# Altium schematic symbol library Schlib1.SchLib: 25 symbols
Pins are listed as number, name and electrical type; pins without a type are passive.

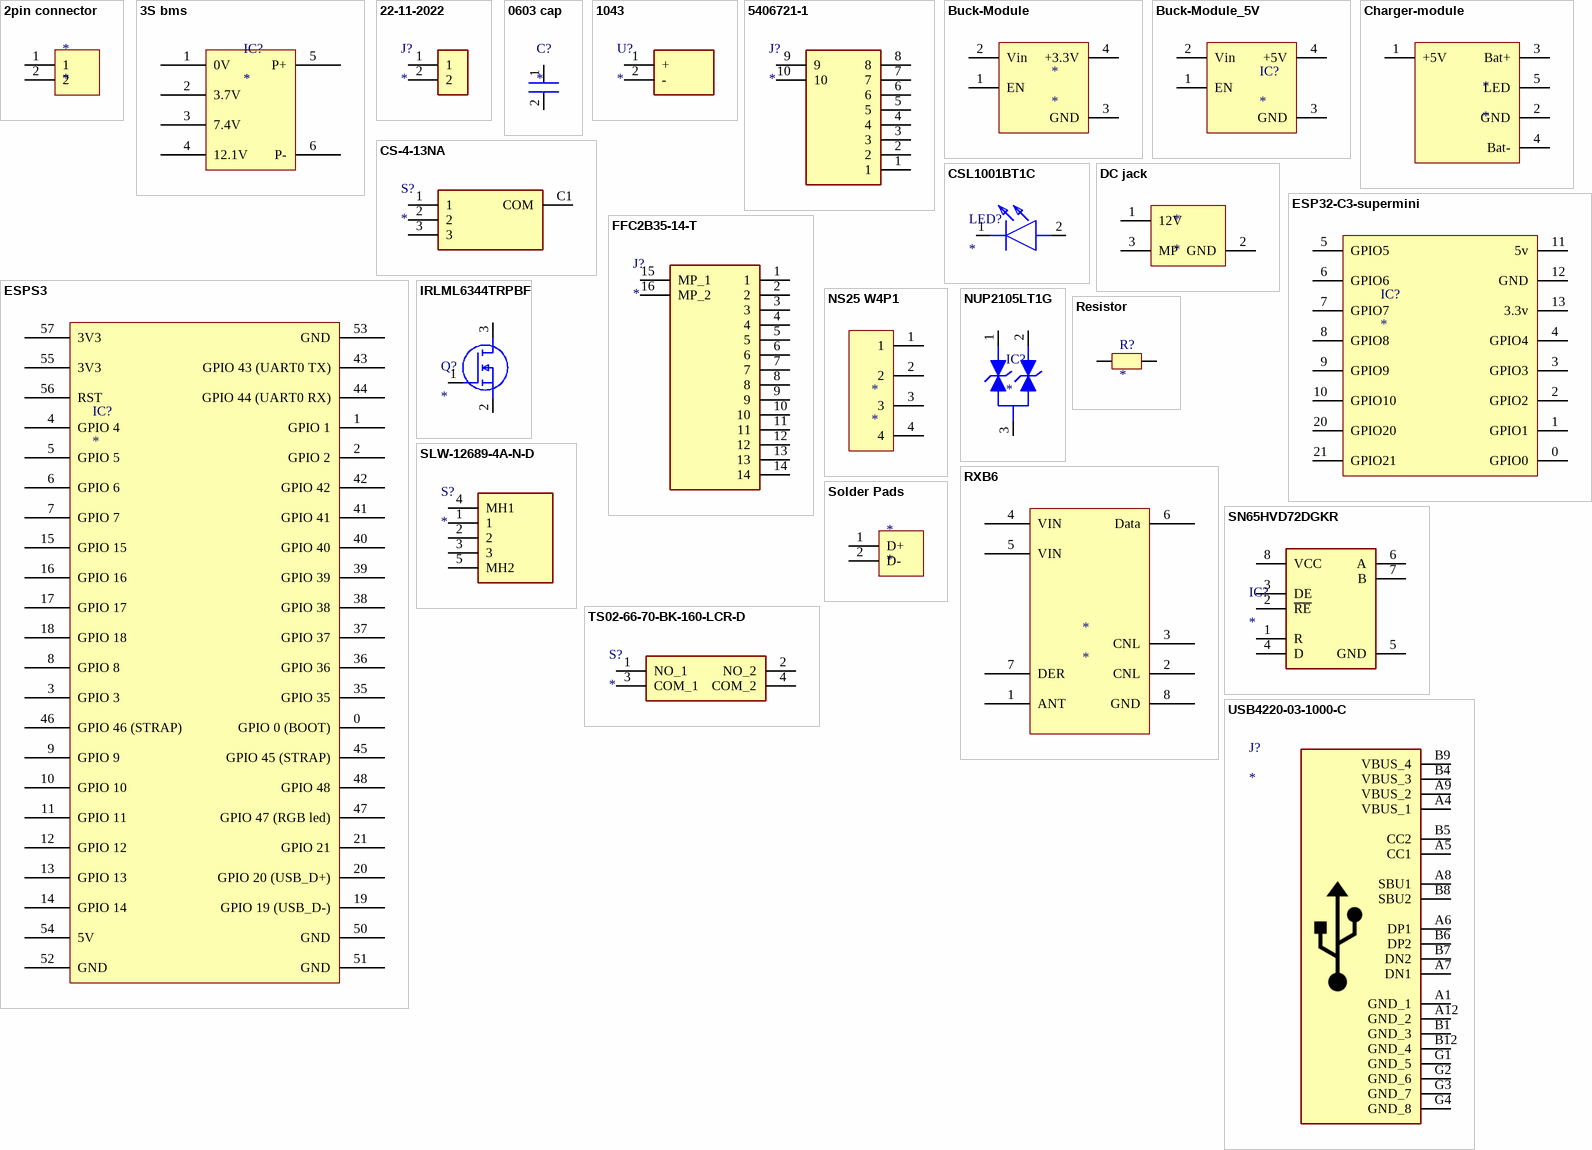
[diagram p0: symbols 2pin connector to USB4220-03-1000-C]

## 2pin connector
designator *
footprint USB Data pads
pins: 1, 2

## 3S bms
designator IC?
footprint 3S BMS
pins: 1 0V, 2 3.7V, 3 7.4V, 4 12.1V, 5 P+, 6 P-

## 22-11-2022
designator J?
Connector; Manufacturer_Name: Molex; Datasheet Link: https://www.molex.com/en-us/products/part-detail/22112022?display=pdf; Height: 10.92mm; Manufacturer_Part_Number: 22-11-2022; Mouser Part Number: 538-22-11-2022; Mouser Price/Stock: https://www.mouser.co.uk/ProductDetail/Molex/22-11-2022?qs=mrPiglD9aYLq1NGrfjXTJg%3D%3D; Arrow Part Number: 22-11-2022; Arrow Price/Stock: https://www.arrow.com/en/products/22-11-2022/molex?utm_currency=USD&region=nac
footprint 22112022
pins: 1, 2

## 0603 cap
designator C?
footprint Resistor
pins: 1 38, 2 39

## 1043
designator U?
Undefined or Miscellaneous; Manufacturer_Name: Keystone Electronics; Manufacturer_Part_Number: 1043; Datasheet Link: http://www.keyelco.com/product-pdf.cfm?p=919; Mouser Part Number: 534-1043; Mouser Price/Stock: https://www.mouser.co.uk/ProductDetail/Keystone-Electronics/1043?qs=%2F7TOpeL5Mz6j%2FnxeOA1rsg%3D%3D; Arrow Part Number: 1043; Arrow Price/Stock: https://www.arrow.com/en/products/1043/keystone-electronics?utm_currency=USD&region=europe
footprint 1043
pins: 1 +, 2 -

## 5406721-1
designator J?
Connector; Manufacturer_Name: TE Connectivity; Manufacturer_Part_Number: 5406721-1; Datasheet Link: https://www.te.com/commerce/DocumentDelivery/DDEController?Action=srchrtrv&DocNm=82066_Mod_Jacks_and_MRJ21_Prod_-_Single&DocType=Catalog%20Section&DocLang=English&PartCntxt=5406721-1&DocFormat=pdf; Height: 12mm; Mouser Part Number: 571-5406721-1; Mouser Price/Stock: https://www.mouser.co.uk/ProductDetail/TE-Connectivity-AMP/5406721-1?qs=dJbzCyn%252BCFbR42PHIn9ZjQ%3D%3D; Arrow Part Number: 5406721-1; Arrow Price/Stock: https://www.arrow.com/en/products/5406721-1/te-connectivity?region=nac
footprint 54067211
footprint 54067211
pins: 1, 2, 3, 4, 5, 6, 7, 8, 9, 10

## Buck-Module
designator *
footprint Buck-Module
pins: 1 EN, 2 Vin, 3 GND, 4 +3.3V

## Buck-Module_5V
designator IC?
footprint Buck-Module
pins: 1 EN, 2 Vin, 3 GND, 4 +5V

## Charger-module
designator *
footprint Charger-module
pins: 1 +5V, 2 GND, 3 Bat+, 4 Bat-, 5 LED

## CS-4-13NA
designator S?
Switch; Manufacturer_Name: Nidec Copal; Manufacturer_Part_Number: CS-4-13NA; Datasheet Link: https://www.nidec-components.com/e/catalog/switch/cs-4.pdf; Height: 2.6mm; Mouser Part Number: 229-CS-4-13NA; Mouser Price/Stock: https://www.mouser.co.uk/ProductDetail/Nidec-Components/CS-4-13NA?qs=XeJtXLiO41RevovLKa6Aew%3D%3D
footprint CS413NA
pins: 1, 2, 3, C1 COM

## CSL1001BT1C
designator LED?
LED; Manufacturer_Name: ROHM Semiconductor; Manufacturer_Part_Number: CSL1001BT1C; Datasheet Link: https://fscdn.rohm.com/en/products/databook/datasheet/opto/led/chip_mono/csl1001bt1(c)-e.pdf; Height: 1.16mm; Mouser Part Number: 755-CSL1001BT1C; Mouser Price/Stock: https://www.mouser.co.uk/ProductDetail/ROHM-Semiconductor/CSL1001BT1C?qs=HoCaDK9Nz5fqNTX3Pg0ReA%3D%3D
footprint CSL1001BT1C
pins: 1 K, 2 A

## DC jack
designator *
footprint DC Jack
pins: 1 12V, 2 GND, 3 MP

## ESP32-C3-supermini
designator IC?
footprint Esp32Module
pins: 0 GPIO0, 1 GPIO1, 2 GPIO2, 3 GPIO3, 4 GPIO4, 5 GPIO5, 6 GPIO6, 7 GPIO7, 8 GPIO8, 9 GPIO9, 10 GPIO10, 11 5v, 12 GND, 13 3.3v, 20 GPIO20, 21 GPIO21

## ESPS3
designator IC?
footprint ESP32S3Module
pins: 0 GPIO 0 (BOOT), 1 GPIO 1, 2 GPIO 2, 3 GPIO 3, 4 GPIO 4, 5 GPIO 5, 6 GPIO 6, 7 GPIO 7, 8 GPIO 8, 9 GPIO 9, 10 GPIO 10, 11 GPIO 11, 12 GPIO 12, 13 GPIO 13, 14 GPIO 14, 15 GPIO 15, 16 GPIO 16, 17 GPIO 17, 18 GPIO 18, 19 GPIO 19 (USB_D-), 20 GPIO 20 (USB_D+), 21 GPIO 21, 35 GPIO 35, 36 GPIO 36, 37 GPIO 37, 38 GPIO 38, 39 GPIO 39, 40 GPIO 40, 41 GPIO 41, 42 GPIO 42, 43 GPIO 43 (UART0 TX), 44 GPIO 44 (UART0 RX), 45 GPIO 45 (STRAP), 46 GPIO 46 (STRAP), 47 GPIO 47 (RGB led), 48 GPIO 48, 50 GND, 51 GND, 52 GND, 53 GND, 54 5V, 55 3V3, 56 RST, 57 3V3

## FFC2B35-14-T
designator J?
Connector; Manufacturer_Name: GCT (GLOBAL CONNECTOR TECHNOLOGY); Manufacturer_Part_Number: FFC2B35-14-T; Datasheet Link: https://gct.co/files/drawings/ffc2b35.pdf; Height: 2.2mm; Mouser Part Number: 640-FFC2B35-14-T; Mouser Price/Stock: https://www.mouser.co.uk/ProductDetail/GCT/FFC2B35-14-T?qs=Li%252BoUPsLEnvGh4quluOFdA%3D%3D
footprint FFC2B3514T
footprint FFC2B3514T
pins: 1, 2, 3, 4, 5, 6, 7, 8, 9, 10, 11, 12, 13, 14, 15 MP_1, 16 MP_2

## IRLML6344TRPBF
designator Q?
MOSFET (N-Channel); Manufacturer_Name: Infineon; Manufacturer_Part_Number: IRLML6344TRPBF; Datasheet Link: https://www.infineon.com/dgdl/irlml6344pbf.pdf?fileId=5546d462533600a4015356689c44262c; Height: 1.12mm; Mouser Part Number: 942-IRLML6344TRPBF; Mouser Price/Stock: https://www.mouser.co.uk/ProductDetail/Infineon-Technologies/IRLML6344TRPBF?qs=9%252BKlkBgLFf2w4qS48UOXVw%3D%3D; Arrow Part Number: IRLML6344TRPBF; Arrow Price/Stock: https://www.arrow.com/en/products/irlml6344trpbf/infineon-technologies-ag?utm_currency=USD&region=europe
footprint SOT95P237X112-3N
pins: 1 G, 2 S, 3 D

## NS25 W4P1
designator *
footprint NS25 W4P1
pins: 1, 2, 3, 4

## NUP2105LT1G
designator IC?
Integrated Circuit; Manufacturer_Name: onsemi; Manufacturer_Part_Number: NUP2105LT1G; Datasheet Link: https://www.onsemi.com/pub/Collateral/NUP2105L-D.PDF; Height: 1.11mm; Mouser Part Number: 863-NUP2105LT1G; Mouser Price/Stock: https://www.mouser.co.uk/ProductDetail/onsemi/NUP2105LT1G?qs=ZXBb0xZ9WeDHmiHN%252BYKtYA%3D%3D; Arrow Part Number: NUP2105LT1G; Arrow Price/Stock: https://www.arrow.com/en/products/nup2105lt1g/on-semiconductor?utm_currency=USD&region=europe
footprint SOT96P237X111-3N
footprint SOT96P237X111-3N
pins: 1, 2, 3

## Resistor
designator R?
footprint Resistor
pins: 1, 2

## RXB6
designator *
footprint RXB6
pins: 1 ANT, 2 CNL, 3 CNL, 4 VIN, 5 VIN, 6 Data, 7 DER, 8 GND

## SLW-12689-4A-N-D
designator S?
Switch; Manufacturer_Name: Same Sky; Manufacturer_Part_Number: SLW-12689-4A-N-D; Datasheet Link: https://www.sameskydevices.com/product/resource/SLW-12689-4A-N-D.pdf; Height: 10.3mm; Mouser Part Number: 179-SLW126894AND; Mouser Price/Stock: https://www.mouser.co.uk/ProductDetail/Same-Sky/SLW-12689-4A-N-D?qs=IKkN%2F947nfDDpe%2FKbSKjtQ%3D%3D; Arrow Part Number: SLW-12689-4A-N-D; Arrow Price/Stock: https://www.arrow.com/en/products/slw-12689-4a-n-d/cui-devices?utm_currency=USD&region=nac
footprint SLW126894AND
pins: 1, 2, 3, 4 MH1, 5 MH2

## SN65HVD72DGKR
designator IC?
Integrated Circuit; Manufacturer_Name: Texas Instruments; Manufacturer_Part_Number: SN65HVD3085EDGKRG4; Datasheet Link: http://www.ti.com/lit/ds/symlink/sn65hvd3082e.pdf; Height: 1.1mm
footprint SOP65P490X110-8N
footprint SOP65P490X110-8N
pins: 1 R, 2 ~{RE}, 3 DE, 4 D, 5 GND, 6 A, 7 B, 8 VCC

## Solder Pads
designator *
footprint USB Data pads
pins: 1 D+, 2 D-

## TS02-66-70-BK-160-LCR-D
designator S?
Switch; Manufacturer_Name: Same Sky; Manufacturer_Part_Number: TS02-66-70-BK-160-LCR-D; Datasheet Link: https://www.sameskydevices.com/product/resource/TS02-66-70-BK-160-LCR-D.pdf; Height: 7.2mm; Mouser Part Number: 179-TS026670BK160LCR; Mouser Price/Stock: https://www.mouser.co.uk/ProductDetail/CUI-Devices/TS02-66-70-BK-160-LCR-D?qs=A6eO%252BMLsxmSQ8aVkS4Cu7Q%3D%3D; Arrow Part Number: TS02-66-70-BK-160-LCR-D; Arrow Price/Stock: https://www.arrow.com/en/products/ts02-66-70-bk-160-lcr-d/cui-devices?region=nac
footprint TS026670BK160LCRD
pins: 1 NO_1, 2 NO_2, 3 COM_1, 4 COM_2

## USB4220-03-1000-C
designator J?
Connector; Manufacturer_Name: GCT (GLOBAL CONNECTOR TECHNOLOGY); Manufacturer_Part_Number: USB4220-03-1000-C; Datasheet Link: https://gct.co/download?type=PDFDrawing&name=USB4220.pdf; Height: 10.25mm; Mouser Part Number: 640-USB4220031000C; Mouser Price/Stock: https://www.mouser.co.uk/ProductDetail/GCT/USB4220-03-1000-C?qs=iLKYxzqNS75fs1QrHcx%2FlA%3D%3D
footprint USB4220031000C
pins: A1 GND_1, A4 VBUS_1, A5 CC1, A6 DP1, A7 DN1, A8 SBU1, A9 VBUS_2, A12 GND_2, B1 GND_3, B4 VBUS_3, B5 CC2, B6 DP2, B7 DN2, B8 SBU2, B9 VBUS_4, B12 GND_4, G1 GND_5, G2 GND_6, G3 GND_7, G4 GND_8